# Altium schematic symbol library JST XH_2.5.SchLib: 5 symbols
Pins are listed as number, name and electrical type; pins without a type are passive.

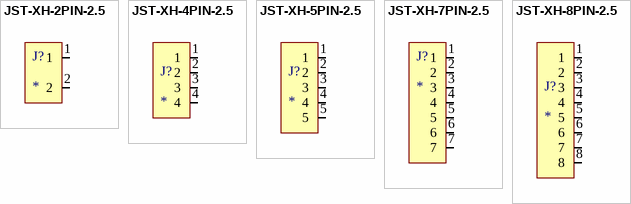
[diagram p0: symbols JST-XH-2PIN-2.5 to JST-XH-8PIN-2.5]

## JST-XH-2PIN-2.5
designator J?
JST-XH-4PIN-2.5
footprint JST-XH-2PIN-2.5_H_st
pins: 1, 2

## JST-XH-4PIN-2.5
designator J?
JST-XH-4PIN-2.5
footprint JST-XH-4PIN-2.5_V
footprint JST-XH-4PIN-2.5_H
footprint JST-XH-4PIN-2.5_HA
pins: 1, 2, 3, 4

## JST-XH-5PIN-2.5
designator J?
JST-XH-5PIN-2.5
footprint JST-XH-5PIN-2.5_H
footprint JST-XH-5PIN-2.5_V
footprint JST-XH-5PIN-2.5_HA
pins: 1, 2, 3, 4, 5

## JST-XH-7PIN-2.5
designator J?
JST-XH-7PIN-2.5
footprint JST-XH-7PIN-2.5_H_dn
footprint JST-XH-7PIN-2.5_H_up
footprint JST-XH-7PIN-2.5_V
footprint JST-XH-7PIN-2.5_H
pins: 1, 2, 3, 4, 5, 6, 7

## JST-XH-8PIN-2.5
designator J?
JST-XH-8PIN-2.5
footprint JST-XH-8PIN-2.5_H_DN
footprint JST-XH-8PIN-2.5_H_UP
footprint JST-XH-8PIN-2.5_V
pins: 1, 2, 3, 4, 5, 6, 7, 8